# Altium schematic symbol library CAP DNF.Schlib: 1 symbol
Pins are listed as number, name and electrical type; pins without a type are passive.

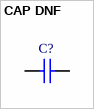
[diagram p0: symbol CAP DNF]

## CAP DNF
designator C?
pins: 1, 2